# Altium integrated library Lattice CPLD ispXPLD 5000MX.IntLib: 156 symbols (part 6 of 46)
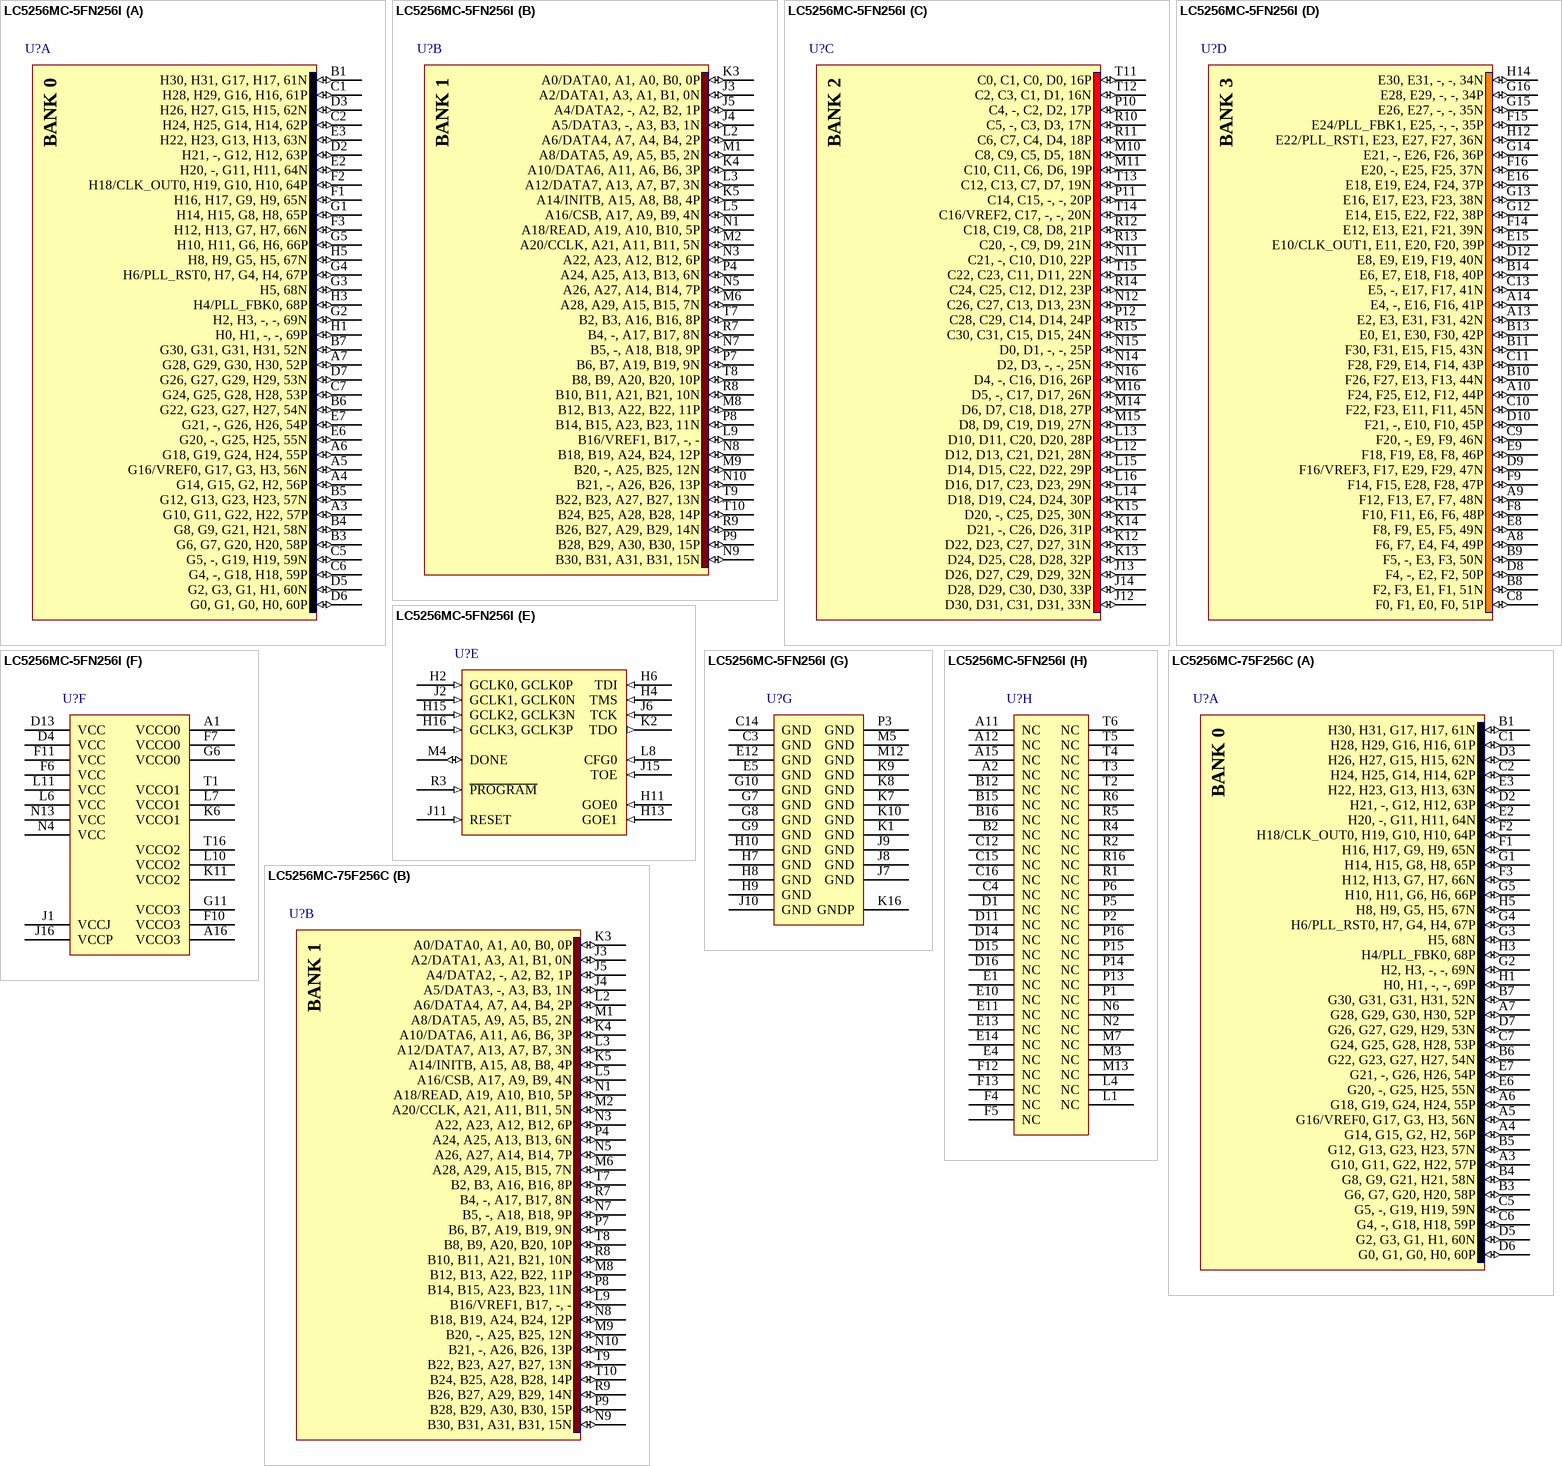
[diagram p190: symbols LC5256MC-5FN256I to LC5256MC-75F256C]

## LC5256MC-5FN256I
designator U?
ispXPLD 5256M eXpanded PLD: 1.8 V, 141 User I/Os, 256-Ball fpBGA, Speed 5.0 ns, Industrial Grade, Pb-Free; Published: 6-Oct-2005; LatestRevisionDate: 30-Mar-2007; LatestRevisionNote: Banks placed in parts.; DatasheetVersion: ver12.2, Mar-2006; PackageVersion: ver01.2 Feb-2007; PackageReference: fpBGA256; Publisher: Altium Limited; PackageDescription: 256-Ball Fine Pitch Ball Grid Array (fpBGA256); Code_IPC: BGA100P16X16-256; ComponentLink1Description: Manufacturer Link; ComponentLink1URL: http://www.latticesemi.com/products/cpld/xpld/index.cfm; ComponentLink2Description: Datasheet; ComponentLink2URL: http://www.latticesemi.com/lit/docs/datasheets/cpld/5kmx.pdf
footprint fpBGA256 (BGA, 256-Leads, Body 17x17mm, Pitch 1mm)
3D model ispXPLD5256MC-fpBGA256 (256-Ball Fine Pitch Ball Grid Array (fpBGA256))
part A pins: A3 G10, G11, G22, H22, 57P (io) "General purpose I/O.", A4 G14, G15, G2, H2, 56P (io) "General purpose I/O.", A5 G16/VREF0, G17, G3, H3, 56N (io) "Dual-purpose pin that is general I/O or Defines I/O bank reference voltage.", A6 G18, G19, G24, H24, 55P (io) "General purpose I/O.", A7 G28, G29, G30, H30, 52P (io) "General purpose I/O.", B1 H30, H31, G17, H17, 61N (io) "General purpose I/O.", B3 G6, G7, G20, H20, 58P (io) "General purpose I/O.", B4 G8, G9, G21, H21, 58N (io) "General purpose I/O.", B5 G12, G13, G23, H23, 57N (io) "General purpose I/O.", B6 G22, G23, G27, H27, 54N (io) "General purpose I/O.", B7 G30, G31, G31, H31, 52N (io) "General purpose I/O.", C1 H28, H29, G16, H16, 61P (io) "General purpose I/O.", C2 H24, H25, G14, H14, 62P (io) "General purpose I/O.", C5 G5, -, G19, H19, 59N (io) "General purpose I/O.", C6 G4, -, G18, H18, 59P (io) "General purpose I/O.", C7 G24, G25, G28, H28, 53P (io) "General purpose I/O.", D2 H21, -, G12, H12, 63P (io) "General purpose I/O.", D3 H26, H27, G15, H15, 62N (io) "General purpose I/O.", D5 G2, G3, G1, H1, 60N (io) "General purpose I/O.", D6 G0, G1, G0, H0, 60P (io) "General purpose I/O.", D7 G26, G27, G29, H29, 53N (io) "General purpose I/O.", E2 H20, -, G11, H11, 64N (io) "General purpose I/O.", E3 H22, H23, G13, H13, 63N (io) "General purpose I/O.", E6 G20, -, G25, H25, 55N (io) "General purpose I/O.", E7 G21, -, G26, H26, 54P (io) "General purpose I/O.", F1 H16, H17, G9, H9, 65N (io) "General purpose I/O.", F2 H18/CLK_OUT0, H19, G10, H10, 64P (io) "Dual-purpose pin that is general I/O or Optional clock output from PLL0.", F3 H12, H13, G7, H7, 66N (io) "General purpose I/O.", G1 H14, H15, G8, H8, 65P (io) "General purpose I/O.", G2 H2, H3, -, -, 69N (io) "General purpose I/O.", G3 H5, 68N (io) "General purpose I/O.", G4 H6/PLL_RST0, H7, G4, H4, 67P (io) "Dual-purpose pin that is general I/O or Optional input resets M divider in PLL0.", G5 H10, H11, G6, H6, 66P (io) "General purpose I/O.", H1 H0, H1, -, -, 69P (io) "General purpose I/O.", H3 H4/PLL_FBK0, 68P (io) "Dual-purpose pin that is general I/O or Optional feeback for PLL0.", H5 H8, H9, G5, H5, 67N (io) "General purpose I/O."
part B pins: J3 A2/DATA1, A3, A1, B1, 0N (io) "Dual-purpose pin that is general I/O or sysCONFIG data pin.", J4 A5/DATA3, -, A3, B3, 1N (io) "Dual-purpose pin that is general I/O or sysCONFIG data pin.", J5 A4/DATA2, -, A2, B2, 1P (io) "Dual-purpose pin that is general I/O or sysCONFIG data pin.", K3 A0/DATA0, A1, A0, B0, 0P (io) "Dual-purpose pin that is general I/O or sysCONFIG data pin.", K4 A10/DATA6, A11, A6, B6, 3P (io) "Dual-purpose pin that is general I/O or sysCONFIG data pin.", K5 A14/INITB, A15, A8, B8, 4P (io) "Dual-purpose pin that is general I/O or Indicates status of configuration.", L2 A6/DATA4, A7, A4, B4, 2P (io) "Dual-purpose pin that is general I/O or sysCONFIG data pin.", L3 A12/DATA7, A13, A7, B7, 3N (io) "Dual-purpose pin that is general I/O or sysCONFIG data pin.", L5 A16/CSB, A17, A9, B9, 4N (io) "General purpose I/O.", L9 B16/VREF1, B17, -, - (io) "Dual-purpose pin that is general I/O or Defines I/O bank reference voltage.", M1 A8/DATA5, A9, A5, B5, 2N (io) "Dual-purpose pin that is general I/O or sysCONFIG data pin.", M2 A20/CCLK, A21, A11, B11, 5N (io) "General purpose I/O.", M6 A28, A29, A15, B15, 7N (io) "General purpose I/O.", M8 B12, B13, A22, B22, 11P (io) "General purpose I/O.", M9 B20, -, A25, B25, 12N (io) "General purpose I/O.", N1 A18/READ, A19, A10, B10, 5P (io) "Dual-purpose pin that is general I/O or Drive high to perform reads from sysCONFIG interface.", N3 A22, A23, A12, B12, 6P (io) "General purpose I/O.", N5 A26, A27, A14, B14, 7P (io) "General purpose I/O.", N7 B5, -, A18, B18, 9P (io) "General purpose I/O.", N8 B18, B19, A24, B24, 12P (io) "General purpose I/O.", N9 B30, B31, A31, B31, 15N (io) "General purpose I/O.", N10 B21, -, A26, B26, 13P (io) "General purpose I/O.", P4 A24, A25, A13, B13, 6N (io) "General purpose I/O.", P7 B6, B7, A19, B19, 9N (io) "General purpose I/O.", P8 B14, B15, A23, B23, 11N (io) "General purpose I/O.", P9 B28, B29, A30, B30, 15P (io) "General purpose I/O.", R7 B4, -, A17, B17, 8N (io) "General purpose I/O.", R8 B10, B11, A21, B21, 10N (io) "General purpose I/O.", R9 B26, B27, A29, B29, 14N (io) "General purpose I/O.", T7 B2, B3, A16, B16, 8P (io) "General purpose I/O.", T8 B8, B9, A20, B20, 10P (io) "General purpose I/O.", T9 B22, B23, A27, B27, 13N (io) "General purpose I/O.", T10 B24, B25, A28, B28, 14P (io) "General purpose I/O."
part C pins: J12 D30, D31, C31, D31, 33N (io) "General purpose I/O.", J13 D26, D27, C29, D29, 32N (io) "General purpose I/O.", J14 D28, D29, C30, D30, 33P (io) "General purpose I/O.", K12 D22, D23, C27, D27, 31N (io) "General purpose I/O.", K13 D24, D25, C28, D28, 32P (io) "General purpose I/O.", K14 D21, -, C26, D26, 31P (io) "General purpose I/O.", K15 D20, -, C25, D25, 30N (io) "General purpose I/O.", L12 D12, D13, C21, D21, 28N (io) "General purpose I/O.", L13 D10, D11, C20, D20, 28P (io) "General purpose I/O.", L14 D18, D19, C24, D24, 30P (io) "General purpose I/O.", L15 D14, D15, C22, D22, 29P (io) "General purpose I/O.", L16 D16, D17, C23, D23, 29N (io) "General purpose I/O.", M10 C8, C9, C5, D5, 18N (io) "General purpose I/O.", M11 C10, C11, C6, D6, 19P (io) "General purpose I/O.", M14 D6, D7, C18, D18, 27P (io) "General purpose I/O.", M15 D8, D9, C19, D19, 27N (io) "General purpose I/O.", M16 D5, -, C17, D17, 26N (io) "General purpose I/O.", N11 C21, -, C10, D10, 22P (io) "General purpose I/O.", N12 C26, C27, C13, D13, 23N (io) "General purpose I/O.", N14 D2, D3, -, -, 25N (io) "General purpose I/O.", N15 D0, D1, -, -, 25P (io) "General purpose I/O.", N16 D4, -, C16, D16, 26P (io) "General purpose I/O.", P10 C4, -, C2, D2, 17P (io) "General purpose I/O.", P11 C14, C15, -, -, 20P (io) "General purpose I/O.", P12 C28, C29, C14, D14, 24P (io) "General purpose I/O.", R10 C5, -, C3, D3, 17N (io) "General purpose I/O.", R11 C6, C7, C4, D4, 18P (io) "General purpose I/O.", R12 C18, C19, C8, D8, 21P (io) "General purpose I/O.", R13 C20, -, C9, D9, 21N (io) "General purpose I/O.", R14 C24, C25, C12, D12, 23P (io) "General purpose I/O.", R15 C30, C31, C15, D15, 24N (io) "General purpose I/O.", T11 C0, C1, C0, D0, 16P (io) "General purpose I/O.", T12 C2, C3, C1, D1, 16N (io) "General purpose I/O.", T13 C12, C13, C7, D7, 19N (io) "General purpose I/O.", T14 C16/VREF2, C17, -, -, 20N (io) "Dual-purpose pin that is general I/O or Defines I/O bank reference voltage.", T15 C22, C23, C11, D11, 22N (io) "General purpose I/O."
part D pins: A8 F6, F7, E4, F4, 49P (io) "General purpose I/O.", A9 F12, F13, E7, F7, 48N (io) "General purpose I/O.", A10 F24, F25, E12, F12, 44P (io) "General purpose I/O.", A13 E2, E3, E31, F31, 42N (io) "General purpose I/O.", A14 E4, -, E16, F16, 41P (io) "General purpose I/O.", B8 F2, F3, E1, F1, 51N (io) "General purpose I/O.", B9 F5, -, E3, F3, 50N (io) "General purpose I/O.", B10 F26, F27, E13, F13, 44N (io) "General purpose I/O.", B11 F30, F31, E15, F15, 43N (io) "General purpose I/O.", B13 E0, E1, E30, F30, 42P (io) "General purpose I/O.", B14 E6, E7, E18, F18, 40P (io) "General purpose I/O.", C8 F0, F1, E0, F0, 51P (io) "General purpose I/O.", C9 F20, -, E9, F9, 46N (io) "General purpose I/O.", C10 F22, F23, E11, F11, 45N (io) "General purpose I/O.", C11 F28, F29, E14, F14, 43P (io) "General purpose I/O.", C13 E5, -, E17, F17, 41N (io) "General purpose I/O.", D8 F4, -, E2, F2, 50P (io) "General purpose I/O.", D9 F16/VREF3, F17, E29, F29, 47N (io) "Dual-purpose pin that is general I/O or Defines I/O bank reference voltage.", D10 F21, -, E10, F10, 45P (io) "General purpose I/O.", D12 E8, E9, E19, F19, 40N (io) "General purpose I/O.", E8 F8, F9, E5, F5, 49N (io) "General purpose I/O.", E9 F18, F19, E8, F8, 46P (io) "General purpose I/O.", E15 E10/CLK_OUT1, E11, E20, F20, 39P (io) "Dual-purpose pin that is general I/O or Optional clock output from PLL1.", E16 E18, E19, E24, F24, 37P (io) "General purpose I/O.", F8 F10, F11, E6, F6, 48P (io) "General purpose I/O.", F9 F14, F15, E28, F28, 47P (io) "General purpose I/O.", F14 E12, E13, E21, F21, 39N (io) "General purpose I/O.", F15 E24/PLL_FBK1, E25, -, -, 35P (io) "Dual-purpose pin that is general I/O or Optional feeback for PLL1.", F16 E20, -, E25, F25, 37N (io) "General purpose I/O.", G12 E14, E15, E22, F22, 38P (io) "General purpose I/O.", G13 E16, E17, E23, F23, 38N (io) "General purpose I/O.", G14 E21, -, E26, F26, 36P (io) "General purpose I/O.", G15 E26, E27, -, -, 35N (io) "General purpose I/O.", G16 E28, E29, -, -, 34P (io) "General purpose I/O.", H12 E22/PLL_RST1, E23, E27, F27, 36N (io) "Dual-purpose pin that is general I/O or Optional input resets M divider in PLL1.", H14 E30, E31, -, -, 34N (io) "General purpose I/O."
part E pins: H2 GCLK0, GCLK0P (in) "Global clock/clock enable input.", H4 TMS (in) "Test Mode Select Input to control 1149.1 state machine.", H6 TDI (in) "Test Data Input. Loads data into device using 1149.1 state machine.", H11 GOE0 (in) "Global output enable input.", H13 GOE1 (in) "Global output enable input.", H15 GCLK2, GCLK3N (in) "Global clock/clock enable input.", H16 GCLK3, GCLK3P (in) "Global clock/clock enable input.", J2 GCLK1, GCLK0N (in) "Global clock/clock enable input.", J6 TCK (in) "Test Clock Input for 1149.1 state machine.", J11 RESET (in) "Resets all registers.", J15 TOE (in) "Test Output Enable. Tristates all I/O pins when driven low.", K2 TDO (out) "Test Data Output. Shifts data out of device using 1149.1.", L8 CFG0 (in) "Clock for sysCONFIG interface. Reads & writes occur on rising edge of clock.", M4 DONE (io) "Indicates configuration status.", R3 ~{PROGRAM} (in) "Controls SRAM programming. Hold high for normal operation. Toggle low to reload SRAM from E2 memory."
part F pins: A1 VCCO0 (power) "Power supply for I/O bank.", A16 VCCO3 (power) "Power supply for I/O bank.", D4 VCC (power) "Power supply for core logic.", D13 VCC (power) "Power supply for core logic.", F6 VCC (power) "Power supply for core logic.", F7 VCCO0 (power) "Power supply for I/O bank.", F10 VCCO3 (power) "Power supply for I/O bank.", F11 VCC (power) "Power supply for core logic.", G6 VCCO0 (power) "Power supply for I/O bank.", G11 VCCO3 (power) "Power supply for I/O bank.", J1 VCCJ (power) "Power supply for IEEE1149.1 interface.", J16 VCCP (power) "Power Supply for PLL.", K6 VCCO1 (power) "Power supply for I/O bank.", K11 VCCO2 (power) "Power supply for I/O bank.", L6 VCC (power) "Power supply for core logic.", L7 VCCO1 (power) "Power supply for I/O bank.", L10 VCCO2 (power) "Power supply for I/O bank.", L11 VCC (power) "Power supply for core logic.", N4 VCC (power) "Power supply for core logic.", N13 VCC (power) "Power supply for core logic.", T1 VCCO1 (power) "Power supply for I/O bank.", T16 VCCO2 (power) "Power supply for I/O bank."
part G pins: C3 GND (power) "Ground.", C14 GND (power) "Ground.", E5 GND (power) "Ground.", E12 GND (power) "Ground.", G7 GND (power) "Ground.", G8 GND (power) "Ground.", G9 GND (power) "Ground.", G10 GND (power) "Ground.", H7 GND (power) "Ground.", H8 GND (power) "Ground.", H9 GND (power) "Ground.", H10 GND (power) "Ground.", J7 GND (power) "Ground.", J8 GND (power) "Ground.", J9 GND (power) "Ground.", J10 GND (power) "Ground.", K1 GND (power) "Ground.", K7 GND (power) "Ground.", K8 GND (power) "Ground.", K9 GND (power) "Ground.", K10 GND (power) "Ground.", K16 GNDP (power) "Ground for PLL.", M5 GND (power) "Ground.", M12 GND (power) "Ground.", P3 GND (power) "Ground."
part H pins: A2 NC "Not Connected.", A11 NC "Not Connected.", A12 NC "Not Connected.", A15 NC "Not Connected.", B2 NC "Not Connected.", B12 NC "Not Connected.", B15 NC "Not Connected.", B16 NC "Not Connected.", C4 NC "Not Connected.", C12 NC "Not Connected.", C15 NC "Not Connected.", C16 NC "Not Connected.", D1 NC "Not Connected.", D11 NC "Not Connected.", D14 NC "Not Connected.", D15 NC "Not Connected.", D16 NC "Not Connected.", E1 NC "Not Connected.", E4 NC "Not Connected.", E10 NC "Not Connected.", E11 NC "Not Connected.", E13 NC "Not Connected.", E14 NC "Not Connected.", F4 NC "Not Connected.", F5 NC "Not Connected.", F12 NC "Not Connected.", F13 NC "Not Connected.", L1 NC "Not Connected.", L4 NC "Not Connected.", M3 NC "Not Connected.", M7 NC "Not Connected.", M13 NC "Not Connected.", N2 NC "Not Connected.", N6 NC "Not Connected.", P1 NC "Not Connected.", P2 NC "Not Connected.", P5 NC "Not Connected.", P6 NC "Not Connected.", P13 NC "Not Connected.", P14 NC "Not Connected.", P15 NC "Not Connected.", P16 NC "Not Connected.", R1 NC "Not Connected.", R2 NC "Not Connected.", R4 NC "Not Connected.", R5 NC "Not Connected.", R6 NC "Not Connected.", R16 NC "Not Connected.", T2 NC "Not Connected.", T3 NC "Not Connected.", T4 NC "Not Connected.", T5 NC "Not Connected.", T6 NC "Not Connected."
part A text: BANK 0
part B text: BANK 1
part C text: BANK 2
part D text: BANK 3

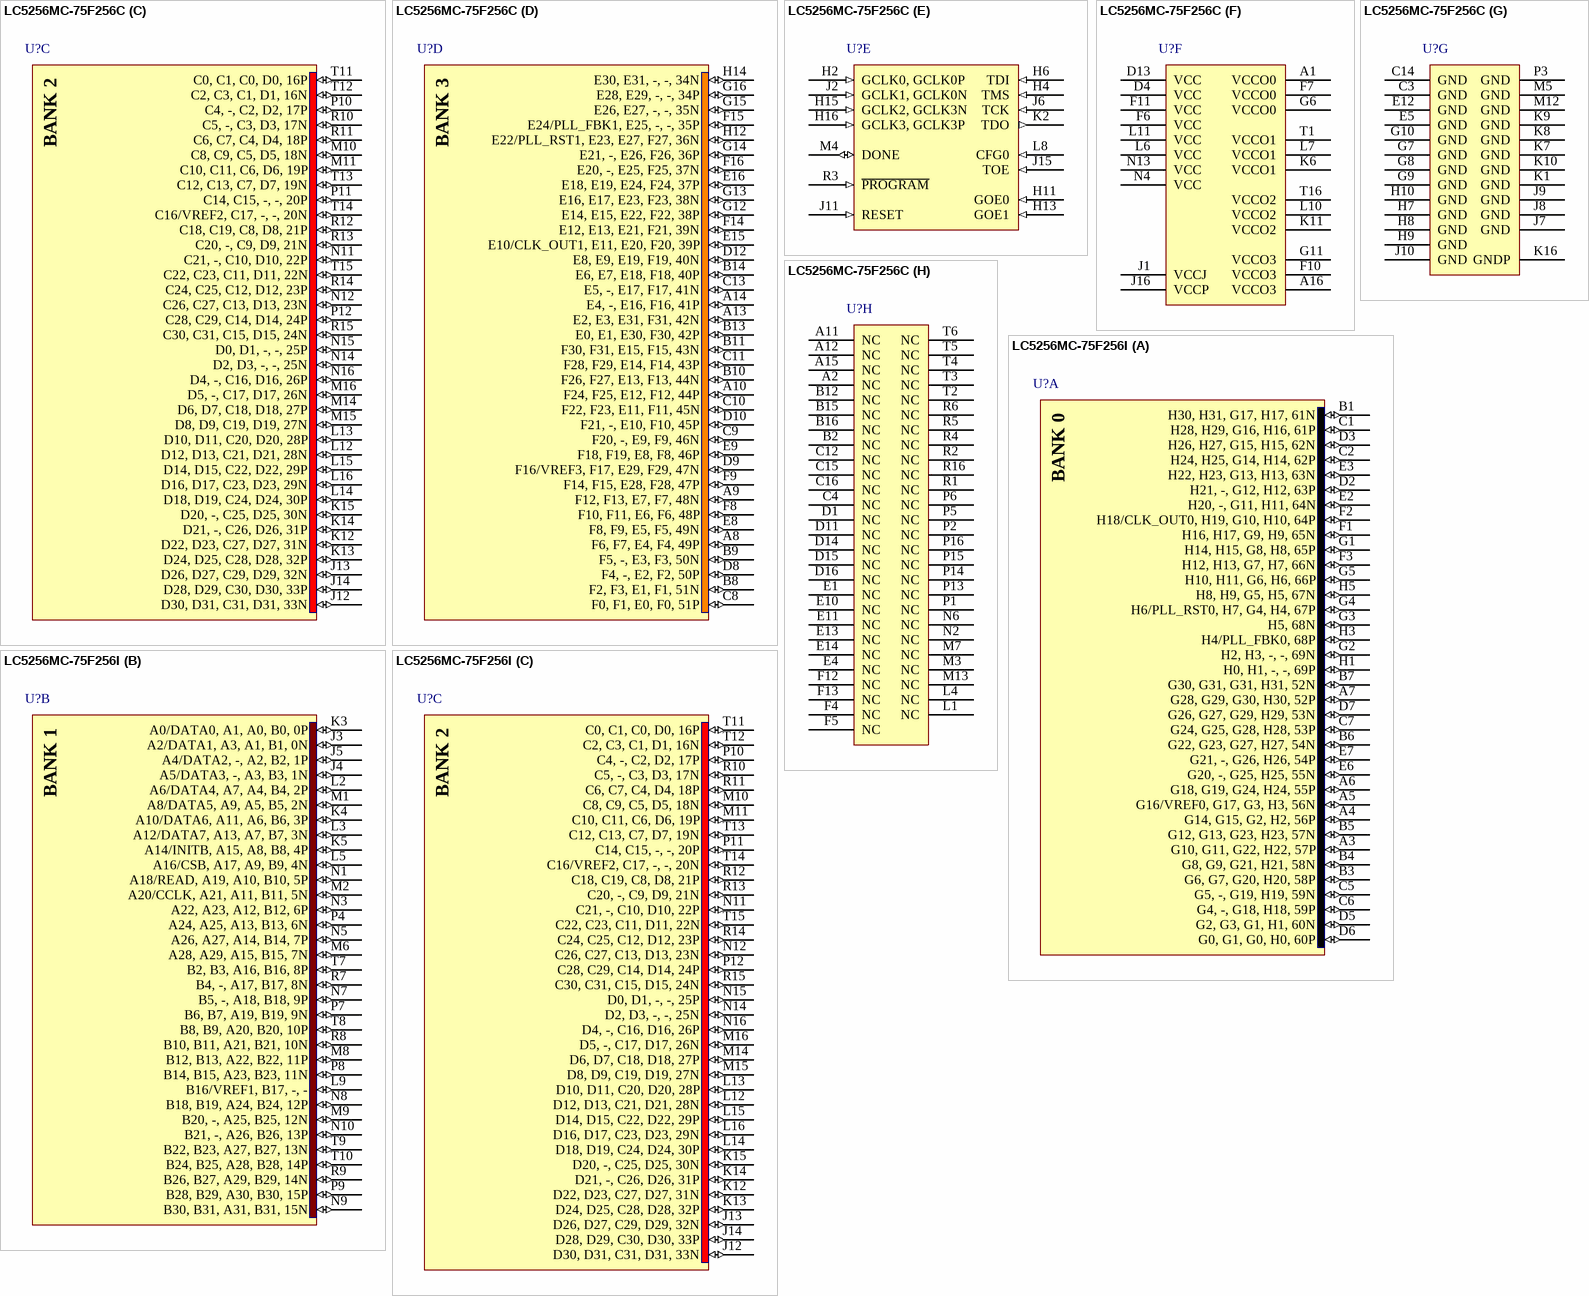
[diagram p13: symbols LC5256MC-75F256C to LC5256MC-75F256I]

## LC5256MC-75F256C
designator U?
ispXPLD 5256M eXpanded PLD: 1.8 V, 141 User I/Os, 256-Ball fpBGA, Speed 7.5 ns, Commercial Grade; Published: 17-Dec-2003; LatestRevisionDate: 30-Mar-2007; LatestRevisionNote: Banks placed in parts.; DatasheetVersion: ver12.2, Mar-2006; PackageVersion: ver01.2 Feb-2007; PackageReference: fpBGA256; Publisher: Altium Limited; PackageDescription: 256-Ball Fine Pitch Ball Grid Array (fpBGA256); Code_IPC: BGA100P16X16-256; ComponentLink1Description: Manufacturer Link; ComponentLink1URL: http://www.latticesemi.com/products/cpld/xpld/index.cfm; ComponentLink2Description: Datasheet; ComponentLink2URL: http://www.latticesemi.com/lit/docs/datasheets/cpld/5kmx.pdf
footprint fpBGA256 (BGA, 256-Leads, Body 17x17mm, Pitch 1mm)
3D model ispXPLD5256MC-fpBGA256 (256-Ball Fine Pitch Ball Grid Array (fpBGA256))
part A pins: A3 G10, G11, G22, H22, 57P (io) "General purpose I/O.", A4 G14, G15, G2, H2, 56P (io) "General purpose I/O.", A5 G16/VREF0, G17, G3, H3, 56N (io) "Dual-purpose pin that is general I/O or Defines I/O bank reference voltage.", A6 G18, G19, G24, H24, 55P (io) "General purpose I/O.", A7 G28, G29, G30, H30, 52P (io) "General purpose I/O.", B1 H30, H31, G17, H17, 61N (io) "General purpose I/O.", B3 G6, G7, G20, H20, 58P (io) "General purpose I/O.", B4 G8, G9, G21, H21, 58N (io) "General purpose I/O.", B5 G12, G13, G23, H23, 57N (io) "General purpose I/O.", B6 G22, G23, G27, H27, 54N (io) "General purpose I/O.", B7 G30, G31, G31, H31, 52N (io) "General purpose I/O.", C1 H28, H29, G16, H16, 61P (io) "General purpose I/O.", C2 H24, H25, G14, H14, 62P (io) "General purpose I/O.", C5 G5, -, G19, H19, 59N (io) "General purpose I/O.", C6 G4, -, G18, H18, 59P (io) "General purpose I/O.", C7 G24, G25, G28, H28, 53P (io) "General purpose I/O.", D2 H21, -, G12, H12, 63P (io) "General purpose I/O.", D3 H26, H27, G15, H15, 62N (io) "General purpose I/O.", D5 G2, G3, G1, H1, 60N (io) "General purpose I/O.", D6 G0, G1, G0, H0, 60P (io) "General purpose I/O.", D7 G26, G27, G29, H29, 53N (io) "General purpose I/O.", E2 H20, -, G11, H11, 64N (io) "General purpose I/O.", E3 H22, H23, G13, H13, 63N (io) "General purpose I/O.", E6 G20, -, G25, H25, 55N (io) "General purpose I/O.", E7 G21, -, G26, H26, 54P (io) "General purpose I/O.", F1 H16, H17, G9, H9, 65N (io) "General purpose I/O.", F2 H18/CLK_OUT0, H19, G10, H10, 64P (io) "Dual-purpose pin that is general I/O or Optional clock output from PLL0.", F3 H12, H13, G7, H7, 66N (io) "General purpose I/O.", G1 H14, H15, G8, H8, 65P (io) "General purpose I/O.", G2 H2, H3, -, -, 69N (io) "General purpose I/O.", G3 H5, 68N (io) "General purpose I/O.", G4 H6/PLL_RST0, H7, G4, H4, 67P (io) "Dual-purpose pin that is general I/O or Optional input resets M divider in PLL0.", G5 H10, H11, G6, H6, 66P (io) "General purpose I/O.", H1 H0, H1, -, -, 69P (io) "General purpose I/O.", H3 H4/PLL_FBK0, 68P (io) "Dual-purpose pin that is general I/O or Optional feeback for PLL0.", H5 H8, H9, G5, H5, 67N (io) "General purpose I/O."
part B pins: J3 A2/DATA1, A3, A1, B1, 0N (io) "Dual-purpose pin that is general I/O or sysCONFIG data pin.", J4 A5/DATA3, -, A3, B3, 1N (io) "Dual-purpose pin that is general I/O or sysCONFIG data pin.", J5 A4/DATA2, -, A2, B2, 1P (io) "Dual-purpose pin that is general I/O or sysCONFIG data pin.", K3 A0/DATA0, A1, A0, B0, 0P (io) "Dual-purpose pin that is general I/O or sysCONFIG data pin.", K4 A10/DATA6, A11, A6, B6, 3P (io) "Dual-purpose pin that is general I/O or sysCONFIG data pin.", K5 A14/INITB, A15, A8, B8, 4P (io) "Dual-purpose pin that is general I/O or Indicates status of configuration.", L2 A6/DATA4, A7, A4, B4, 2P (io) "Dual-purpose pin that is general I/O or sysCONFIG data pin.", L3 A12/DATA7, A13, A7, B7, 3N (io) "Dual-purpose pin that is general I/O or sysCONFIG data pin.", L5 A16/CSB, A17, A9, B9, 4N (io) "General purpose I/O.", L9 B16/VREF1, B17, -, - (io) "Dual-purpose pin that is general I/O or Defines I/O bank reference voltage.", M1 A8/DATA5, A9, A5, B5, 2N (io) "Dual-purpose pin that is general I/O or sysCONFIG data pin.", M2 A20/CCLK, A21, A11, B11, 5N (io) "General purpose I/O.", M6 A28, A29, A15, B15, 7N (io) "General purpose I/O.", M8 B12, B13, A22, B22, 11P (io) "General purpose I/O.", M9 B20, -, A25, B25, 12N (io) "General purpose I/O.", N1 A18/READ, A19, A10, B10, 5P (io) "Dual-purpose pin that is general I/O or Drive high to perform reads from sysCONFIG interface.", N3 A22, A23, A12, B12, 6P (io) "General purpose I/O.", N5 A26, A27, A14, B14, 7P (io) "General purpose I/O.", N7 B5, -, A18, B18, 9P (io) "General purpose I/O.", N8 B18, B19, A24, B24, 12P (io) "General purpose I/O.", N9 B30, B31, A31, B31, 15N (io) "General purpose I/O.", N10 B21, -, A26, B26, 13P (io) "General purpose I/O.", P4 A24, A25, A13, B13, 6N (io) "General purpose I/O.", P7 B6, B7, A19, B19, 9N (io) "General purpose I/O.", P8 B14, B15, A23, B23, 11N (io) "General purpose I/O.", P9 B28, B29, A30, B30, 15P (io) "General purpose I/O.", R7 B4, -, A17, B17, 8N (io) "General purpose I/O.", R8 B10, B11, A21, B21, 10N (io) "General purpose I/O.", R9 B26, B27, A29, B29, 14N (io) "General purpose I/O.", T7 B2, B3, A16, B16, 8P (io) "General purpose I/O.", T8 B8, B9, A20, B20, 10P (io) "General purpose I/O.", T9 B22, B23, A27, B27, 13N (io) "General purpose I/O.", T10 B24, B25, A28, B28, 14P (io) "General purpose I/O."
part C pins: J12 D30, D31, C31, D31, 33N (io) "General purpose I/O.", J13 D26, D27, C29, D29, 32N (io) "General purpose I/O.", J14 D28, D29, C30, D30, 33P (io) "General purpose I/O.", K12 D22, D23, C27, D27, 31N (io) "General purpose I/O.", K13 D24, D25, C28, D28, 32P (io) "General purpose I/O.", K14 D21, -, C26, D26, 31P (io) "General purpose I/O.", K15 D20, -, C25, D25, 30N (io) "General purpose I/O.", L12 D12, D13, C21, D21, 28N (io) "General purpose I/O.", L13 D10, D11, C20, D20, 28P (io) "General purpose I/O.", L14 D18, D19, C24, D24, 30P (io) "General purpose I/O.", L15 D14, D15, C22, D22, 29P (io) "General purpose I/O.", L16 D16, D17, C23, D23, 29N (io) "General purpose I/O.", M10 C8, C9, C5, D5, 18N (io) "General purpose I/O.", M11 C10, C11, C6, D6, 19P (io) "General purpose I/O.", M14 D6, D7, C18, D18, 27P (io) "General purpose I/O.", M15 D8, D9, C19, D19, 27N (io) "General purpose I/O.", M16 D5, -, C17, D17, 26N (io) "General purpose I/O.", N11 C21, -, C10, D10, 22P (io) "General purpose I/O.", N12 C26, C27, C13, D13, 23N (io) "General purpose I/O.", N14 D2, D3, -, -, 25N (io) "General purpose I/O.", N15 D0, D1, -, -, 25P (io) "General purpose I/O.", N16 D4, -, C16, D16, 26P (io) "General purpose I/O.", P10 C4, -, C2, D2, 17P (io) "General purpose I/O.", P11 C14, C15, -, -, 20P (io) "General purpose I/O.", P12 C28, C29, C14, D14, 24P (io) "General purpose I/O.", R10 C5, -, C3, D3, 17N (io) "General purpose I/O.", R11 C6, C7, C4, D4, 18P (io) "General purpose I/O.", R12 C18, C19, C8, D8, 21P (io) "General purpose I/O.", R13 C20, -, C9, D9, 21N (io) "General purpose I/O.", R14 C24, C25, C12, D12, 23P (io) "General purpose I/O.", R15 C30, C31, C15, D15, 24N (io) "General purpose I/O.", T11 C0, C1, C0, D0, 16P (io) "General purpose I/O.", T12 C2, C3, C1, D1, 16N (io) "General purpose I/O.", T13 C12, C13, C7, D7, 19N (io) "General purpose I/O.", T14 C16/VREF2, C17, -, -, 20N (io) "Dual-purpose pin that is general I/O or Defines I/O bank reference voltage.", T15 C22, C23, C11, D11, 22N (io) "General purpose I/O."
part D pins: A8 F6, F7, E4, F4, 49P (io) "General purpose I/O.", A9 F12, F13, E7, F7, 48N (io) "General purpose I/O.", A10 F24, F25, E12, F12, 44P (io) "General purpose I/O.", A13 E2, E3, E31, F31, 42N (io) "General purpose I/O.", A14 E4, -, E16, F16, 41P (io) "General purpose I/O.", B8 F2, F3, E1, F1, 51N (io) "General purpose I/O.", B9 F5, -, E3, F3, 50N (io) "General purpose I/O.", B10 F26, F27, E13, F13, 44N (io) "General purpose I/O.", B11 F30, F31, E15, F15, 43N (io) "General purpose I/O.", B13 E0, E1, E30, F30, 42P (io) "General purpose I/O.", B14 E6, E7, E18, F18, 40P (io) "General purpose I/O.", C8 F0, F1, E0, F0, 51P (io) "General purpose I/O.", C9 F20, -, E9, F9, 46N (io) "General purpose I/O.", C10 F22, F23, E11, F11, 45N (io) "General purpose I/O.", C11 F28, F29, E14, F14, 43P (io) "General purpose I/O.", C13 E5, -, E17, F17, 41N (io) "General purpose I/O.", D8 F4, -, E2, F2, 50P (io) "General purpose I/O.", D9 F16/VREF3, F17, E29, F29, 47N (io) "Dual-purpose pin that is general I/O or Defines I/O bank reference voltage.", D10 F21, -, E10, F10, 45P (io) "General purpose I/O.", D12 E8, E9, E19, F19, 40N (io) "General purpose I/O.", E8 F8, F9, E5, F5, 49N (io) "General purpose I/O.", E9 F18, F19, E8, F8, 46P (io) "General purpose I/O.", E15 E10/CLK_OUT1, E11, E20, F20, 39P (io) "Dual-purpose pin that is general I/O or Optional clock output from PLL1.", E16 E18, E19, E24, F24, 37P (io) "General purpose I/O.", F8 F10, F11, E6, F6, 48P (io) "General purpose I/O.", F9 F14, F15, E28, F28, 47P (io) "General purpose I/O.", F14 E12, E13, E21, F21, 39N (io) "General purpose I/O.", F15 E24/PLL_FBK1, E25, -, -, 35P (io) "Dual-purpose pin that is general I/O or Optional feeback for PLL1.", F16 E20, -, E25, F25, 37N (io) "General purpose I/O.", G12 E14, E15, E22, F22, 38P (io) "General purpose I/O.", G13 E16, E17, E23, F23, 38N (io) "General purpose I/O.", G14 E21, -, E26, F26, 36P (io) "General purpose I/O.", G15 E26, E27, -, -, 35N (io) "General purpose I/O.", G16 E28, E29, -, -, 34P (io) "General purpose I/O.", H12 E22/PLL_RST1, E23, E27, F27, 36N (io) "Dual-purpose pin that is general I/O or Optional input resets M divider in PLL1.", H14 E30, E31, -, -, 34N (io) "General purpose I/O."
part E pins: H2 GCLK0, GCLK0P (in) "Global clock/clock enable input.", H4 TMS (in) "Test Mode Select Input to control 1149.1 state machine.", H6 TDI (in) "Test Data Input. Loads data into device using 1149.1 state machine.", H11 GOE0 (in) "Global output enable input.", H13 GOE1 (in) "Global output enable input.", H15 GCLK2, GCLK3N (in) "Global clock/clock enable input.", H16 GCLK3, GCLK3P (in) "Global clock/clock enable input.", J2 GCLK1, GCLK0N (in) "Global clock/clock enable input.", J6 TCK (in) "Test Clock Input for 1149.1 state machine.", J11 RESET (in) "Resets all registers.", J15 TOE (in) "Test Output Enable. Tristates all I/O pins when driven low.", K2 TDO (out) "Test Data Output. Shifts data out of device using 1149.1.", L8 CFG0 (in) "Clock for sysCONFIG interface. Reads & writes occur on rising edge of clock.", M4 DONE (io) "Indicates configuration status.", R3 ~{PROGRAM} (in) "Controls SRAM programming. Hold high for normal operation. Toggle low to reload SRAM from E2 memory."
part F pins: A1 VCCO0 (power) "Power supply for I/O bank.", A16 VCCO3 (power) "Power supply for I/O bank.", D4 VCC (power) "Power supply for core logic.", D13 VCC (power) "Power supply for core logic.", F6 VCC (power) "Power supply for core logic.", F7 VCCO0 (power) "Power supply for I/O bank.", F10 VCCO3 (power) "Power supply for I/O bank.", F11 VCC (power) "Power supply for core logic.", G6 VCCO0 (power) "Power supply for I/O bank.", G11 VCCO3 (power) "Power supply for I/O bank.", J1 VCCJ (power) "Power supply for IEEE1149.1 interface.", J16 VCCP (power) "Power Supply for PLL.", K6 VCCO1 (power) "Power supply for I/O bank.", K11 VCCO2 (power) "Power supply for I/O bank.", L6 VCC (power) "Power supply for core logic.", L7 VCCO1 (power) "Power supply for I/O bank.", L10 VCCO2 (power) "Power supply for I/O bank.", L11 VCC (power) "Power supply for core logic.", N4 VCC (power) "Power supply for core logic.", N13 VCC (power) "Power supply for core logic.", T1 VCCO1 (power) "Power supply for I/O bank.", T16 VCCO2 (power) "Power supply for I/O bank."
part G pins: C3 GND (power) "Ground.", C14 GND (power) "Ground.", E5 GND (power) "Ground.", E12 GND (power) "Ground.", G7 GND (power) "Ground.", G8 GND (power) "Ground.", G9 GND (power) "Ground.", G10 GND (power) "Ground.", H7 GND (power) "Ground.", H8 GND (power) "Ground.", H9 GND (power) "Ground.", H10 GND (power) "Ground.", J7 GND (power) "Ground.", J8 GND (power) "Ground.", J9 GND (power) "Ground.", J10 GND (power) "Ground.", K1 GND (power) "Ground.", K7 GND (power) "Ground.", K8 GND (power) "Ground.", K9 GND (power) "Ground.", K10 GND (power) "Ground.", K16 GNDP (power) "Ground for PLL.", M5 GND (power) "Ground.", M12 GND (power) "Ground.", P3 GND (power) "Ground."
part H pins: A2 NC "Not Connected.", A11 NC "Not Connected.", A12 NC "Not Connected.", A15 NC "Not Connected.", B2 NC "Not Connected.", B12 NC "Not Connected.", B15 NC "Not Connected.", B16 NC "Not Connected.", C4 NC "Not Connected.", C12 NC "Not Connected.", C15 NC "Not Connected.", C16 NC "Not Connected.", D1 NC "Not Connected.", D11 NC "Not Connected.", D14 NC "Not Connected.", D15 NC "Not Connected.", D16 NC "Not Connected.", E1 NC "Not Connected.", E4 NC "Not Connected.", E10 NC "Not Connected.", E11 NC "Not Connected.", E13 NC "Not Connected.", E14 NC "Not Connected.", F4 NC "Not Connected.", F5 NC "Not Connected.", F12 NC "Not Connected.", F13 NC "Not Connected.", L1 NC "Not Connected.", L4 NC "Not Connected.", M3 NC "Not Connected.", M7 NC "Not Connected.", M13 NC "Not Connected.", N2 NC "Not Connected.", N6 NC "Not Connected.", P1 NC "Not Connected.", P2 NC "Not Connected.", P5 NC "Not Connected.", P6 NC "Not Connected.", P13 NC "Not Connected.", P14 NC "Not Connected.", P15 NC "Not Connected.", P16 NC "Not Connected.", R1 NC "Not Connected.", R2 NC "Not Connected.", R4 NC "Not Connected.", R5 NC "Not Connected.", R6 NC "Not Connected.", R16 NC "Not Connected.", T2 NC "Not Connected.", T3 NC "Not Connected.", T4 NC "Not Connected.", T5 NC "Not Connected.", T6 NC "Not Connected."
part A text: BANK 0
part B text: BANK 1
part C text: BANK 2
part D text: BANK 3

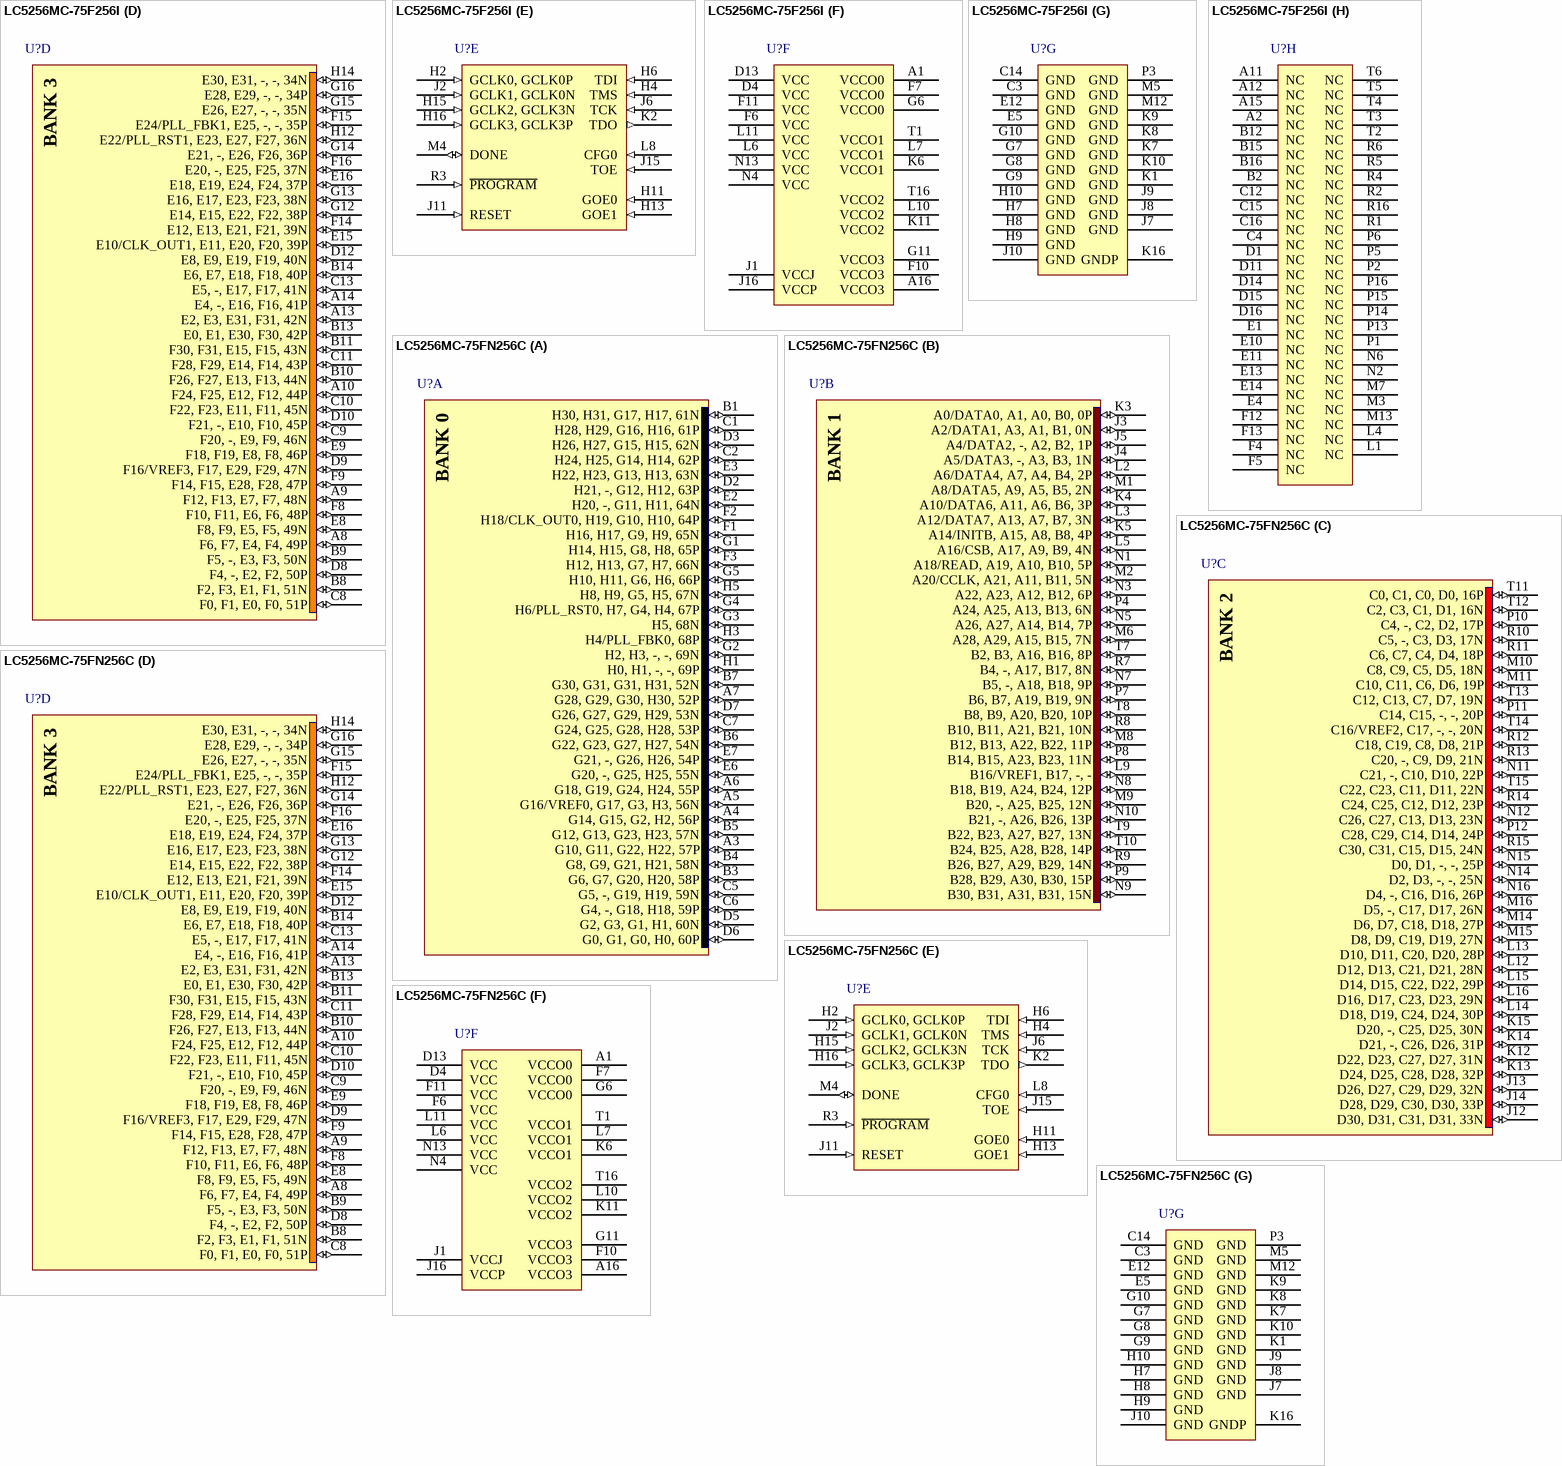
[diagram p14: symbols LC5256MC-75F256I to LC5256MC-75FN256C]

## LC5256MC-75F256I
designator U?
ispXPLD 5256M eXpanded PLD: 1.8 V, 141 User I/Os, 256-Ball fpBGA, Speed 7.5 ns, Industrial Grade; Published: 17-Dec-2003; LatestRevisionDate: 30-Mar-2007; LatestRevisionNote: Banks placed in parts.; DatasheetVersion: ver12.2, Mar-2006; PackageVersion: ver01.2 Feb-2007; PackageReference: fpBGA256; Publisher: Altium Limited; PackageDescription: 256-Ball Fine Pitch Ball Grid Array (fpBGA256); Code_IPC: BGA100P16X16-256; ComponentLink1Description: Manufacturer Link; ComponentLink1URL: http://www.latticesemi.com/products/cpld/xpld/index.cfm; ComponentLink2Description: Datasheet; ComponentLink2URL: http://www.latticesemi.com/lit/docs/datasheets/cpld/5kmx.pdf
footprint fpBGA256 (BGA, 256-Leads, Body 17x17mm, Pitch 1mm)
3D model ispXPLD5256MC-fpBGA256 (256-Ball Fine Pitch Ball Grid Array (fpBGA256))
part A pins: A3 G10, G11, G22, H22, 57P (io) "General purpose I/O.", A4 G14, G15, G2, H2, 56P (io) "General purpose I/O.", A5 G16/VREF0, G17, G3, H3, 56N (io) "Dual-purpose pin that is general I/O or Defines I/O bank reference voltage.", A6 G18, G19, G24, H24, 55P (io) "General purpose I/O.", A7 G28, G29, G30, H30, 52P (io) "General purpose I/O.", B1 H30, H31, G17, H17, 61N (io) "General purpose I/O.", B3 G6, G7, G20, H20, 58P (io) "General purpose I/O.", B4 G8, G9, G21, H21, 58N (io) "General purpose I/O.", B5 G12, G13, G23, H23, 57N (io) "General purpose I/O.", B6 G22, G23, G27, H27, 54N (io) "General purpose I/O.", B7 G30, G31, G31, H31, 52N (io) "General purpose I/O.", C1 H28, H29, G16, H16, 61P (io) "General purpose I/O.", C2 H24, H25, G14, H14, 62P (io) "General purpose I/O.", C5 G5, -, G19, H19, 59N (io) "General purpose I/O.", C6 G4, -, G18, H18, 59P (io) "General purpose I/O.", C7 G24, G25, G28, H28, 53P (io) "General purpose I/O.", D2 H21, -, G12, H12, 63P (io) "General purpose I/O.", D3 H26, H27, G15, H15, 62N (io) "General purpose I/O.", D5 G2, G3, G1, H1, 60N (io) "General purpose I/O.", D6 G0, G1, G0, H0, 60P (io) "General purpose I/O.", D7 G26, G27, G29, H29, 53N (io) "General purpose I/O.", E2 H20, -, G11, H11, 64N (io) "General purpose I/O.", E3 H22, H23, G13, H13, 63N (io) "General purpose I/O.", E6 G20, -, G25, H25, 55N (io) "General purpose I/O.", E7 G21, -, G26, H26, 54P (io) "General purpose I/O.", F1 H16, H17, G9, H9, 65N (io) "General purpose I/O.", F2 H18/CLK_OUT0, H19, G10, H10, 64P (io) "Dual-purpose pin that is general I/O or Optional clock output from PLL0.", F3 H12, H13, G7, H7, 66N (io) "General purpose I/O.", G1 H14, H15, G8, H8, 65P (io) "General purpose I/O.", G2 H2, H3, -, -, 69N (io) "General purpose I/O.", G3 H5, 68N (io) "General purpose I/O.", G4 H6/PLL_RST0, H7, G4, H4, 67P (io) "Dual-purpose pin that is general I/O or Optional input resets M divider in PLL0.", G5 H10, H11, G6, H6, 66P (io) "General purpose I/O.", H1 H0, H1, -, -, 69P (io) "General purpose I/O.", H3 H4/PLL_FBK0, 68P (io) "Dual-purpose pin that is general I/O or Optional feeback for PLL0.", H5 H8, H9, G5, H5, 67N (io) "General purpose I/O."
part B pins: J3 A2/DATA1, A3, A1, B1, 0N (io) "Dual-purpose pin that is general I/O or sysCONFIG data pin.", J4 A5/DATA3, -, A3, B3, 1N (io) "Dual-purpose pin that is general I/O or sysCONFIG data pin.", J5 A4/DATA2, -, A2, B2, 1P (io) "Dual-purpose pin that is general I/O or sysCONFIG data pin.", K3 A0/DATA0, A1, A0, B0, 0P (io) "Dual-purpose pin that is general I/O or sysCONFIG data pin.", K4 A10/DATA6, A11, A6, B6, 3P (io) "Dual-purpose pin that is general I/O or sysCONFIG data pin.", K5 A14/INITB, A15, A8, B8, 4P (io) "Dual-purpose pin that is general I/O or Indicates status of configuration.", L2 A6/DATA4, A7, A4, B4, 2P (io) "Dual-purpose pin that is general I/O or sysCONFIG data pin.", L3 A12/DATA7, A13, A7, B7, 3N (io) "Dual-purpose pin that is general I/O or sysCONFIG data pin.", L5 A16/CSB, A17, A9, B9, 4N (io) "General purpose I/O.", L9 B16/VREF1, B17, -, - (io) "Dual-purpose pin that is general I/O or Defines I/O bank reference voltage.", M1 A8/DATA5, A9, A5, B5, 2N (io) "Dual-purpose pin that is general I/O or sysCONFIG data pin.", M2 A20/CCLK, A21, A11, B11, 5N (io) "General purpose I/O.", M6 A28, A29, A15, B15, 7N (io) "General purpose I/O.", M8 B12, B13, A22, B22, 11P (io) "General purpose I/O.", M9 B20, -, A25, B25, 12N (io) "General purpose I/O.", N1 A18/READ, A19, A10, B10, 5P (io) "Dual-purpose pin that is general I/O or Drive high to perform reads from sysCONFIG interface.", N3 A22, A23, A12, B12, 6P (io) "General purpose I/O.", N5 A26, A27, A14, B14, 7P (io) "General purpose I/O.", N7 B5, -, A18, B18, 9P (io) "General purpose I/O.", N8 B18, B19, A24, B24, 12P (io) "General purpose I/O.", N9 B30, B31, A31, B31, 15N (io) "General purpose I/O.", N10 B21, -, A26, B26, 13P (io) "General purpose I/O.", P4 A24, A25, A13, B13, 6N (io) "General purpose I/O.", P7 B6, B7, A19, B19, 9N (io) "General purpose I/O.", P8 B14, B15, A23, B23, 11N (io) "General purpose I/O.", P9 B28, B29, A30, B30, 15P (io) "General purpose I/O.", R7 B4, -, A17, B17, 8N (io) "General purpose I/O.", R8 B10, B11, A21, B21, 10N (io) "General purpose I/O.", R9 B26, B27, A29, B29, 14N (io) "General purpose I/O.", T7 B2, B3, A16, B16, 8P (io) "General purpose I/O.", T8 B8, B9, A20, B20, 10P (io) "General purpose I/O.", T9 B22, B23, A27, B27, 13N (io) "General purpose I/O.", T10 B24, B25, A28, B28, 14P (io) "General purpose I/O."
part C pins: J12 D30, D31, C31, D31, 33N (io) "General purpose I/O.", J13 D26, D27, C29, D29, 32N (io) "General purpose I/O.", J14 D28, D29, C30, D30, 33P (io) "General purpose I/O.", K12 D22, D23, C27, D27, 31N (io) "General purpose I/O.", K13 D24, D25, C28, D28, 32P (io) "General purpose I/O.", K14 D21, -, C26, D26, 31P (io) "General purpose I/O.", K15 D20, -, C25, D25, 30N (io) "General purpose I/O.", L12 D12, D13, C21, D21, 28N (io) "General purpose I/O.", L13 D10, D11, C20, D20, 28P (io) "General purpose I/O.", L14 D18, D19, C24, D24, 30P (io) "General purpose I/O.", L15 D14, D15, C22, D22, 29P (io) "General purpose I/O.", L16 D16, D17, C23, D23, 29N (io) "General purpose I/O.", M10 C8, C9, C5, D5, 18N (io) "General purpose I/O.", M11 C10, C11, C6, D6, 19P (io) "General purpose I/O.", M14 D6, D7, C18, D18, 27P (io) "General purpose I/O.", M15 D8, D9, C19, D19, 27N (io) "General purpose I/O.", M16 D5, -, C17, D17, 26N (io) "General purpose I/O.", N11 C21, -, C10, D10, 22P (io) "General purpose I/O.", N12 C26, C27, C13, D13, 23N (io) "General purpose I/O.", N14 D2, D3, -, -, 25N (io) "General purpose I/O.", N15 D0, D1, -, -, 25P (io) "General purpose I/O.", N16 D4, -, C16, D16, 26P (io) "General purpose I/O.", P10 C4, -, C2, D2, 17P (io) "General purpose I/O.", P11 C14, C15, -, -, 20P (io) "General purpose I/O.", P12 C28, C29, C14, D14, 24P (io) "General purpose I/O.", R10 C5, -, C3, D3, 17N (io) "General purpose I/O.", R11 C6, C7, C4, D4, 18P (io) "General purpose I/O.", R12 C18, C19, C8, D8, 21P (io) "General purpose I/O.", R13 C20, -, C9, D9, 21N (io) "General purpose I/O.", R14 C24, C25, C12, D12, 23P (io) "General purpose I/O.", R15 C30, C31, C15, D15, 24N (io) "General purpose I/O.", T11 C0, C1, C0, D0, 16P (io) "General purpose I/O.", T12 C2, C3, C1, D1, 16N (io) "General purpose I/O.", T13 C12, C13, C7, D7, 19N (io) "General purpose I/O.", T14 C16/VREF2, C17, -, -, 20N (io) "Dual-purpose pin that is general I/O or Defines I/O bank reference voltage.", T15 C22, C23, C11, D11, 22N (io) "General purpose I/O."
part D pins: A8 F6, F7, E4, F4, 49P (io) "General purpose I/O.", A9 F12, F13, E7, F7, 48N (io) "General purpose I/O.", A10 F24, F25, E12, F12, 44P (io) "General purpose I/O.", A13 E2, E3, E31, F31, 42N (io) "General purpose I/O.", A14 E4, -, E16, F16, 41P (io) "General purpose I/O.", B8 F2, F3, E1, F1, 51N (io) "General purpose I/O.", B9 F5, -, E3, F3, 50N (io) "General purpose I/O.", B10 F26, F27, E13, F13, 44N (io) "General purpose I/O.", B11 F30, F31, E15, F15, 43N (io) "General purpose I/O.", B13 E0, E1, E30, F30, 42P (io) "General purpose I/O.", B14 E6, E7, E18, F18, 40P (io) "General purpose I/O.", C8 F0, F1, E0, F0, 51P (io) "General purpose I/O.", C9 F20, -, E9, F9, 46N (io) "General purpose I/O.", C10 F22, F23, E11, F11, 45N (io) "General purpose I/O.", C11 F28, F29, E14, F14, 43P (io) "General purpose I/O.", C13 E5, -, E17, F17, 41N (io) "General purpose I/O.", D8 F4, -, E2, F2, 50P (io) "General purpose I/O.", D9 F16/VREF3, F17, E29, F29, 47N (io) "Dual-purpose pin that is general I/O or Defines I/O bank reference voltage.", D10 F21, -, E10, F10, 45P (io) "General purpose I/O.", D12 E8, E9, E19, F19, 40N (io) "General purpose I/O.", E8 F8, F9, E5, F5, 49N (io) "General purpose I/O.", E9 F18, F19, E8, F8, 46P (io) "General purpose I/O.", E15 E10/CLK_OUT1, E11, E20, F20, 39P (io) "Dual-purpose pin that is general I/O or Optional clock output from PLL1.", E16 E18, E19, E24, F24, 37P (io) "General purpose I/O.", F8 F10, F11, E6, F6, 48P (io) "General purpose I/O.", F9 F14, F15, E28, F28, 47P (io) "General purpose I/O.", F14 E12, E13, E21, F21, 39N (io) "General purpose I/O.", F15 E24/PLL_FBK1, E25, -, -, 35P (io) "Dual-purpose pin that is general I/O or Optional feeback for PLL1.", F16 E20, -, E25, F25, 37N (io) "General purpose I/O.", G12 E14, E15, E22, F22, 38P (io) "General purpose I/O.", G13 E16, E17, E23, F23, 38N (io) "General purpose I/O.", G14 E21, -, E26, F26, 36P (io) "General purpose I/O.", G15 E26, E27, -, -, 35N (io) "General purpose I/O.", G16 E28, E29, -, -, 34P (io) "General purpose I/O.", H12 E22/PLL_RST1, E23, E27, F27, 36N (io) "Dual-purpose pin that is general I/O or Optional input resets M divider in PLL1.", H14 E30, E31, -, -, 34N (io) "General purpose I/O."
part E pins: H2 GCLK0, GCLK0P (in) "Global clock/clock enable input.", H4 TMS (in) "Test Mode Select Input to control 1149.1 state machine.", H6 TDI (in) "Test Data Input. Loads data into device using 1149.1 state machine.", H11 GOE0 (in) "Global output enable input.", H13 GOE1 (in) "Global output enable input.", H15 GCLK2, GCLK3N (in) "Global clock/clock enable input.", H16 GCLK3, GCLK3P (in) "Global clock/clock enable input.", J2 GCLK1, GCLK0N (in) "Global clock/clock enable input.", J6 TCK (in) "Test Clock Input for 1149.1 state machine.", J11 RESET (in) "Resets all registers.", J15 TOE (in) "Test Output Enable. Tristates all I/O pins when driven low.", K2 TDO (out) "Test Data Output. Shifts data out of device using 1149.1.", L8 CFG0 (in) "Clock for sysCONFIG interface. Reads & writes occur on rising edge of clock.", M4 DONE (io) "Indicates configuration status.", R3 ~{PROGRAM} (in) "Controls SRAM programming. Hold high for normal operation. Toggle low to reload SRAM from E2 memory."
part F pins: A1 VCCO0 (power) "Power supply for I/O bank.", A16 VCCO3 (power) "Power supply for I/O bank.", D4 VCC (power) "Power supply for core logic.", D13 VCC (power) "Power supply for core logic.", F6 VCC (power) "Power supply for core logic.", F7 VCCO0 (power) "Power supply for I/O bank.", F10 VCCO3 (power) "Power supply for I/O bank.", F11 VCC (power) "Power supply for core logic.", G6 VCCO0 (power) "Power supply for I/O bank.", G11 VCCO3 (power) "Power supply for I/O bank.", J1 VCCJ (power) "Power supply for IEEE1149.1 interface.", J16 VCCP (power) "Power Supply for PLL.", K6 VCCO1 (power) "Power supply for I/O bank.", K11 VCCO2 (power) "Power supply for I/O bank.", L6 VCC (power) "Power supply for core logic.", L7 VCCO1 (power) "Power supply for I/O bank.", L10 VCCO2 (power) "Power supply for I/O bank.", L11 VCC (power) "Power supply for core logic.", N4 VCC (power) "Power supply for core logic.", N13 VCC (power) "Power supply for core logic.", T1 VCCO1 (power) "Power supply for I/O bank.", T16 VCCO2 (power) "Power supply for I/O bank."
part G pins: C3 GND (power) "Ground.", C14 GND (power) "Ground.", E5 GND (power) "Ground.", E12 GND (power) "Ground.", G7 GND (power) "Ground.", G8 GND (power) "Ground.", G9 GND (power) "Ground.", G10 GND (power) "Ground.", H7 GND (power) "Ground.", H8 GND (power) "Ground.", H9 GND (power) "Ground.", H10 GND (power) "Ground.", J7 GND (power) "Ground.", J8 GND (power) "Ground.", J9 GND (power) "Ground.", J10 GND (power) "Ground.", K1 GND (power) "Ground.", K7 GND (power) "Ground.", K8 GND (power) "Ground.", K9 GND (power) "Ground.", K10 GND (power) "Ground.", K16 GNDP (power) "Ground for PLL.", M5 GND (power) "Ground.", M12 GND (power) "Ground.", P3 GND (power) "Ground."
part H pins: A2 NC "Not Connected.", A11 NC "Not Connected.", A12 NC "Not Connected.", A15 NC "Not Connected.", B2 NC "Not Connected.", B12 NC "Not Connected.", B15 NC "Not Connected.", B16 NC "Not Connected.", C4 NC "Not Connected.", C12 NC "Not Connected.", C15 NC "Not Connected.", C16 NC "Not Connected.", D1 NC "Not Connected.", D11 NC "Not Connected.", D14 NC "Not Connected.", D15 NC "Not Connected.", D16 NC "Not Connected.", E1 NC "Not Connected.", E4 NC "Not Connected.", E10 NC "Not Connected.", E11 NC "Not Connected.", E13 NC "Not Connected.", E14 NC "Not Connected.", F4 NC "Not Connected.", F5 NC "Not Connected.", F12 NC "Not Connected.", F13 NC "Not Connected.", L1 NC "Not Connected.", L4 NC "Not Connected.", M3 NC "Not Connected.", M7 NC "Not Connected.", M13 NC "Not Connected.", N2 NC "Not Connected.", N6 NC "Not Connected.", P1 NC "Not Connected.", P2 NC "Not Connected.", P5 NC "Not Connected.", P6 NC "Not Connected.", P13 NC "Not Connected.", P14 NC "Not Connected.", P15 NC "Not Connected.", P16 NC "Not Connected.", R1 NC "Not Connected.", R2 NC "Not Connected.", R4 NC "Not Connected.", R5 NC "Not Connected.", R6 NC "Not Connected.", R16 NC "Not Connected.", T2 NC "Not Connected.", T3 NC "Not Connected.", T4 NC "Not Connected.", T5 NC "Not Connected.", T6 NC "Not Connected."
part A text: BANK 0
part B text: BANK 1
part C text: BANK 2
part D text: BANK 3

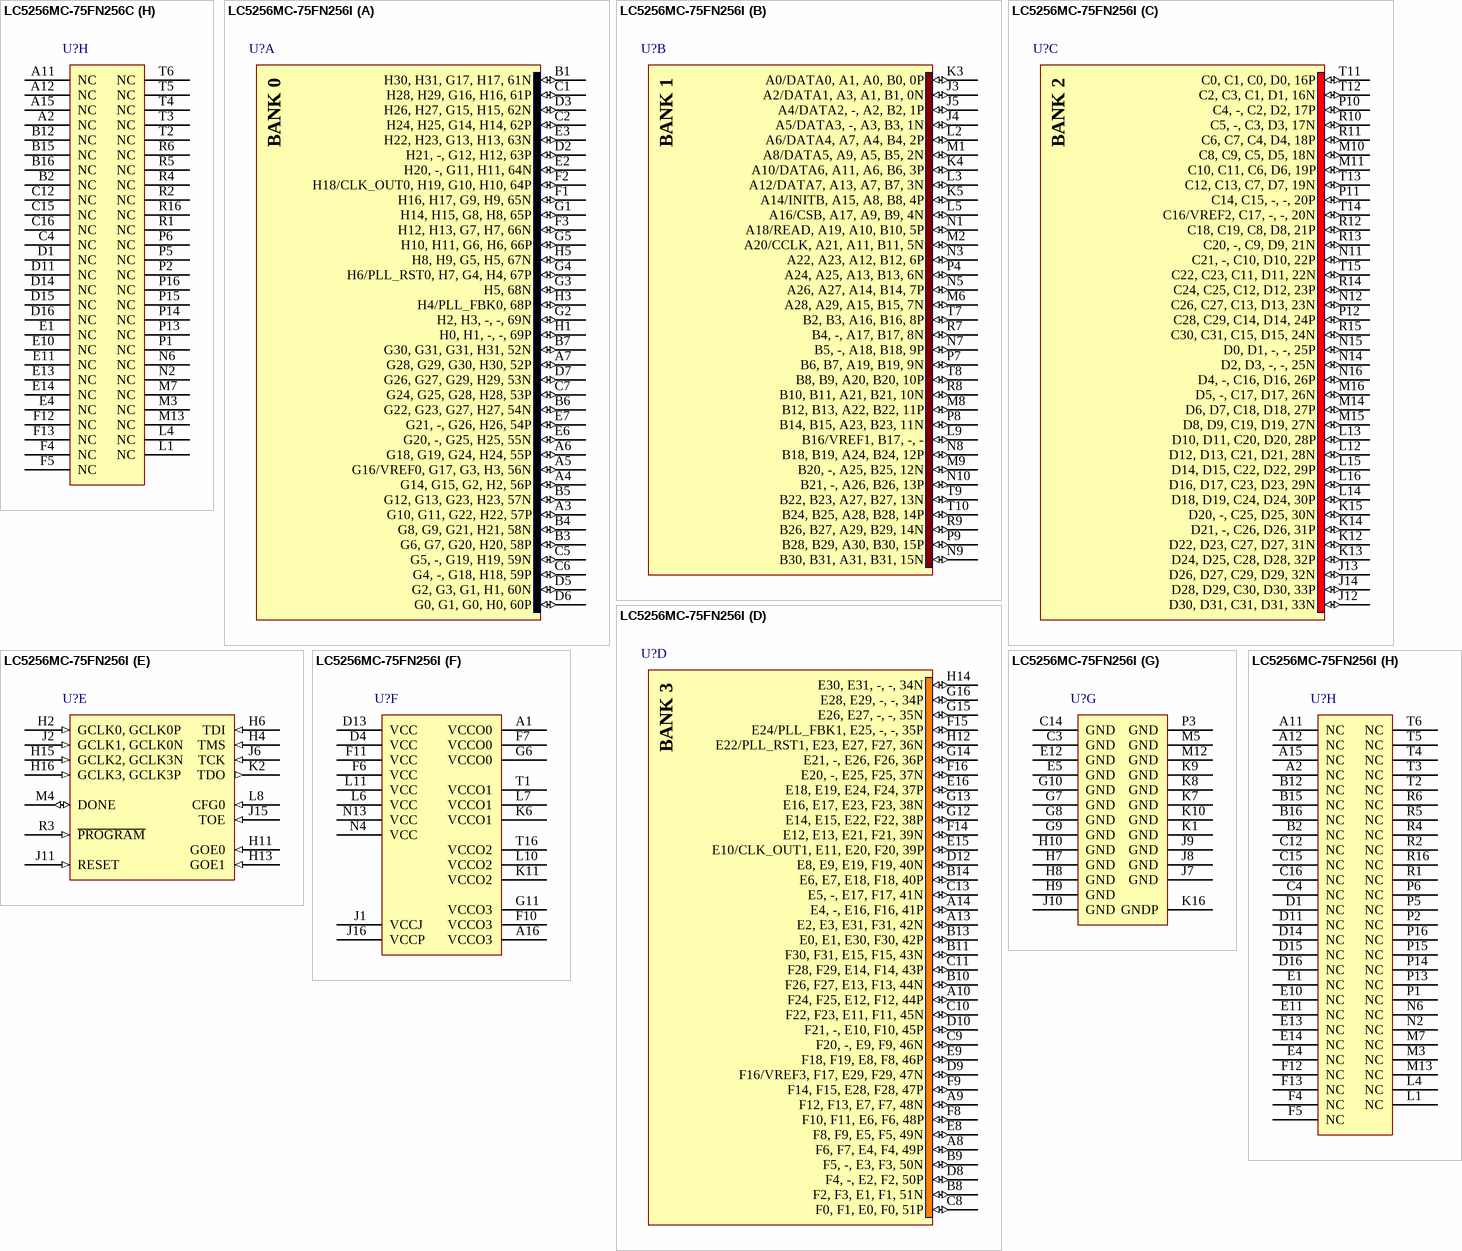
[diagram p15: symbols LC5256MC-75FN256C to LC5256MC-75FN256I]